# Altium footprint library PCB - CONNECTOR - MOLEX - MOLEX 1053131106.PcbLib: 1 footprints
Each footprint in its own frame and in the unit in brackets; x right, y up, seen from the top. Pads: shape width x height; smd on the part's side, far side on the other; paste and mask are expansions set on the pad; w line width, h text height; cw(c..) or ccw(c..) is an arc to the next point about the centre after c.
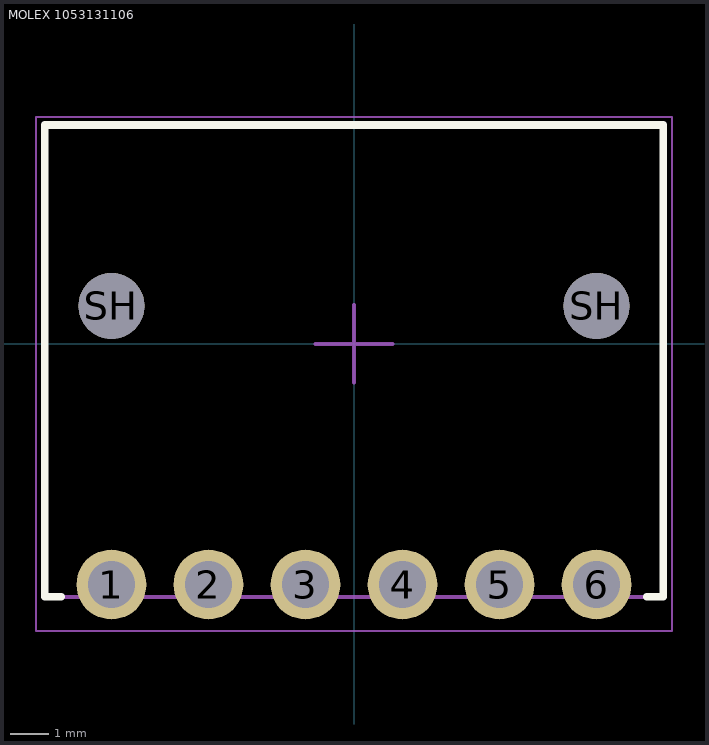
[diagram p0: the footprint, top view; thin cyan lines are the x and y axes]

## MOLEX 1053131106 [mm] "Connector Header Through Hole, Right Angle 6 position, 2mm Pitch, 15.94x8.64 mm Body"
height 6.64
pads (8):
  round 1.8 hole 1.2: 1(-6.25,-6.2) 2(-3.75,-6.2) 3(-1.25,-6.2) 4(1.25,-6.2) 5(3.75,-6.2) 6(6.25,-6.2)
  round 1.7 hole 1.7: SH(-6.25,0.98) SH(6.25,0.98)
Top Overlay:
  lines w0.2: -7.55,-6.517 -7.97,-6.517 -7.97,5.64 7.97,5.64 7.97,-6.517 7.55,-6.517
Mechanical 1:
  lines w0.1: -7.97,-6.517 -7.97,5.64 7.97,5.64 7.97,-6.517 -7.97,-6.517
Mechanical 15 (Mech15):
  lines w0.05: -8.2,-7.4 -8.2,5.85 8.2,5.85 8.2,-7.4 -8.2,-7.4
  lines w0.1: -1,0 0,0 ; 0,-1 0,0 ; 0,1 0,0 ; 1,0 0,0
3D body: height 6.64, standoff -3.2, extent -7.97,-6.517 7.97,5.64